# Altium schematic symbol library Connectors.SchLib: 10 symbols
Pins are listed as number, name and electrical type; pins without a type are passive.

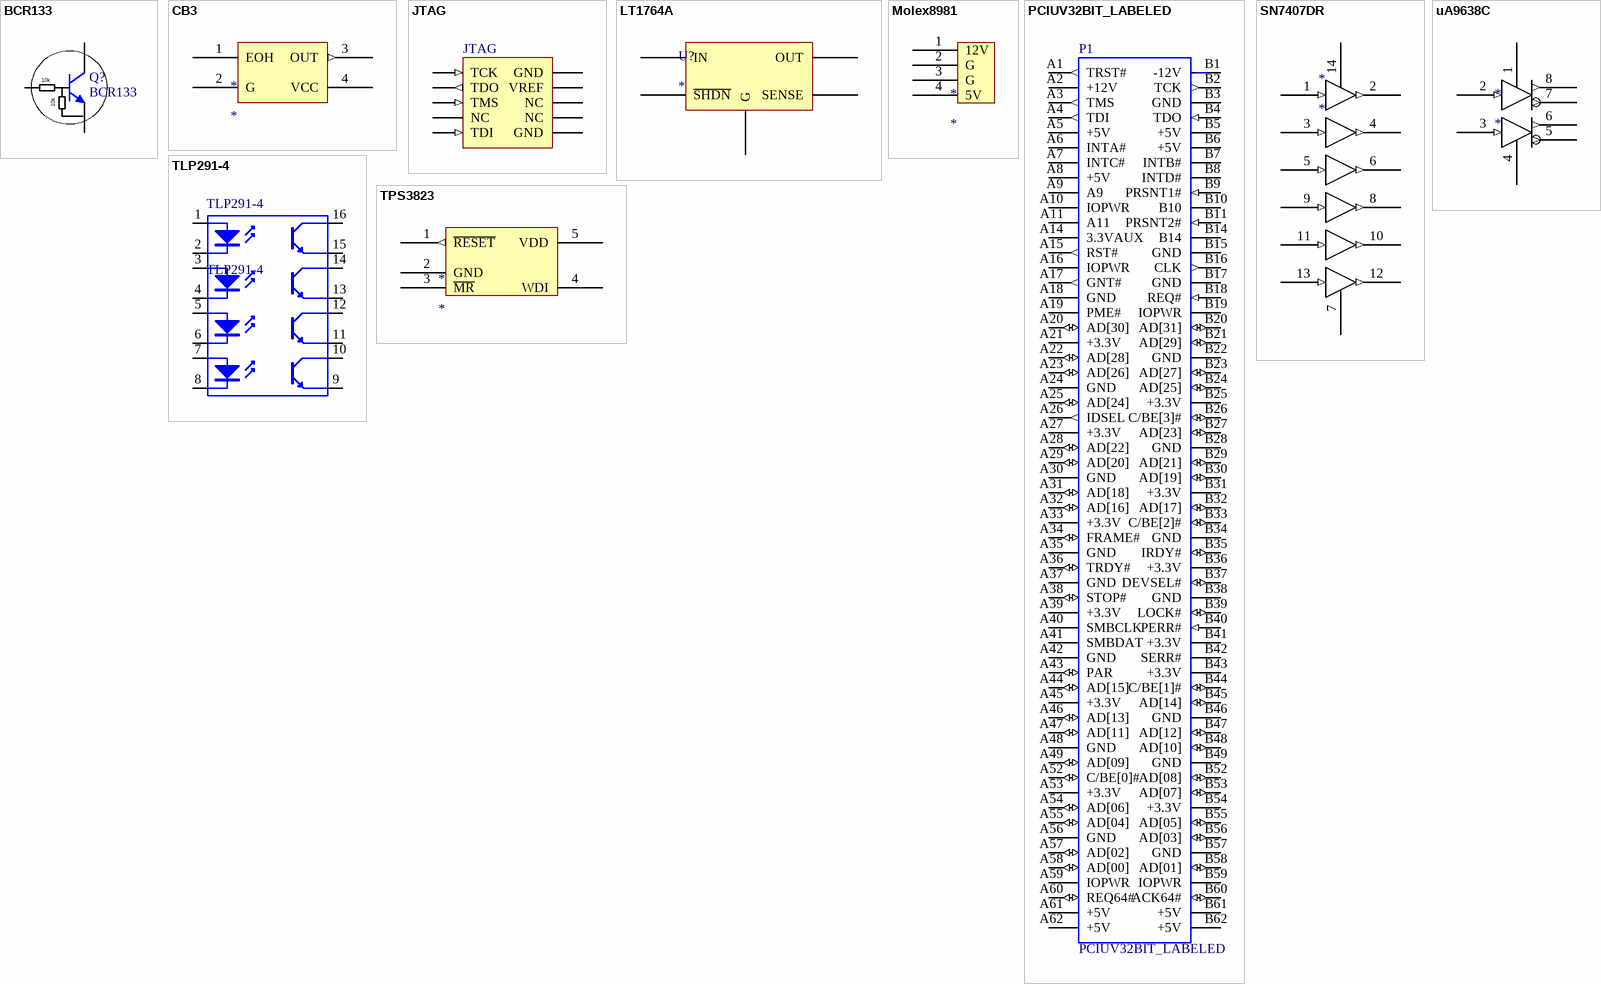
[diagram p0: symbols BCR133 to uA9638C]

## BCR133
designator Q?
NPN Bipolar Transistor; Published: 8-Jun-2000; LatestRevisionDate: 29-May-2009; LatestRevisionNote: IPC-7351 Footprint Added.; PackageVersion: Aug-1999; PackageReference: SOT-23B; Publisher: Altium Limited; PackageDescription: 3-Pin SOT-23 Package 0.95 mm Pitch, 2.4 mm Lead Span
footprint SOT-23B_N (SOT23, 3-Leads, Body 2.9x1.3mm, Pitch 0.95mm, Lead Span 2.4mm, IPC Medium Density)
footprint SOT-23B_L (SOT23, 3-Leads, Body 2.9x1.3mm, Pitch 0.95mm, Lead Span 2.4mm, IPC High Density)
footprint SOT-23B_M (SOT23, 3-Leads, Body 2.9x1.3mm, Pitch 0.95mm, Lead Span 2.4mm, IPC Low Density)
simulation model QNPN (NPN)
signal-integrity model NPN
footprint SOT23_N_1 (SOT23, 3-Leads, Body 2.9x1.3mm, Pitch 0.95mm, Lead Span 2.3mm - Reverse Pinning, IPC Medium Density)
pins: 1 B, 2 E, 3 C
text: 10k

## CB3
designator *
footprint CB3 (Footprint not found)
pins: 1 EOH (hiz), 2 G (power), 3 OUT (out), 4 VCC (power)

## JTAG
designator JTAG  (value not drawn)
Header, 5-Pin, Dual row; LatestRevisionDate: 17-Jul-2002; LatestRevisionNote: Re-released for DXP Platform.; Publisher: Altium Limited
footprint HDR2X5 (Connector; Header; 5x2 Position)
signal-integrity model Connector
pins: 1 TCK (in), 2 GND (power), 3 TDO (out), 4 VREF (power), 5 TMS (in), 6 NC, 7 NC, 8 NC, 9 TDI (in), 10 GND (power)

## LT1764A
designator U?
footprint LT1764A (Footprint not found)
pins: G (power), IN (power), OUT (power), SENSE, SHDN ~{SHDN}

## Molex8981
designator *
pins: 1 12V, 2 G, 3 G, 4 5V

## PCIUV32BIT_LABELED
designator P1
Card, 116-Position; Text Field6: Pins A12, A13, B12, B13, A50, A51, B50 & B51 are not present.  Alternate Layout Available; Text Field7: Published 14-Feb-2002
footprint PCIUV32BIT (Footprint not found)
signal-integrity model Model Name (Model Description)
pins: A1 TRST# (out), A2 +12V (power), A3 TMS (out), A4 TDI (out), A5 +5V (power), A6 INTA# (oc), A7 INTC# (oc), A8 +5V (power), A9, A10 IOPWR (power), A11, A14 3.3VAUX (power), A15 RST# (out), A16 IOPWR (power), A17 GNT# (out), A18 GND (power), A19 PME# (oc), A20 AD[30] (io), A21 +3.3V (power), A22 AD[28] (io), A23 AD[26] (io), A24 GND (power), A25 AD[24] (io), A26 IDSEL (out), A27 +3.3V (power), A28 AD[22] (io), A29 AD[20] (io), A30 GND (power), A31 AD[18] (io), A32 AD[16] (io), A33 +3.3V (power), A34 FRAME# (io), A35 GND (power), A36 TRDY# (io), A37 GND (power), A38 STOP# (io), A39 +3.3V (power), A40 SMBCLK (oc), A41 SMBDAT (oc), A42 GND (power), A43 PAR (io), A44 AD[15] (io), A45 +3.3V (power), A46 AD[13] (io), A47 AD[11] (io), A48 GND (power), A49 AD[09] (io), A52 C/BE[0]# (io), A53 +3.3V (power), A54 AD[06] (io), A55 AD[04] (io), A56 GND (power), A57 AD[02] (io), A58 AD[00] (io), A59 IOPWR (power), A60 REQ64# (io), A61 +5V (power), A62 +5V (power), B1 -12V (power), B2 TCK (out), B3 GND (power), B4 TDO (in), B5 +5V (power), B6 +5V (power), B7 INTB# (oc), B8 INTD# (oc), B9 PRSNT1# (in), B10, B11 PRSNT2# (in), B14, B15 GND (power), B16 CLK (out), B17 GND (power), B18 REQ# (in), B19 IOPWR (power), B20 AD[31] (io), B21 AD[29] (io), B22 GND (power), B23 AD[27] (io), B24 AD[25] (io), B25 +3.3V (power), B26 C/BE[3]# (io), B27 AD[23] (io), B28 GND (power), B29 AD[21] (io), B30 AD[19] (io), B31 +3.3V (power), B32 AD[17] (io), B33 C/BE[2]# (io), B34 GND (power), B35 IRDY# (io), B36 +3.3V (power), B37 DEVSEL# (io), B38 GND (power), B39 LOCK# (io), B40 PERR# (in), B41 +3.3V (power), B42 SERR# (oc), B43 +3.3V (power), B44 C/BE[1]# (io), B45 AD[14] (io), B46 GND (power), B47 AD[12] (io), B48 AD[10] (io), B49 GND (power), B52 AD[08] (io), B53 AD[07] (io), B54 +3.3V (power), B55 AD[05] (io), B56 AD[03] (io), B57 GND (power), B58 AD[01] (io), B59 IOPWR (power), B60 ACK64# (io), B61 +5V (power), B62 +5V (power)

## SN7407DR
designator *
footprint SO14 (Footprint not found)
pins: 1 (in), 2 (out), 3 (in), 4 (out), 5 (in), 6 (out), 7 (power), 8 (out), 9 (in), 10 (out), 11 (in), 12 (out), 13 (in), 14 (power)

## TLP291-4
designator TLP291-4
4-Pin Phototransistor Optocoupler; Published: 24-Mar-1999; LatestRevisionDate: 04-Mar-2005; LatestRevisionNote: Sch pins 3 & 4 Swapped.; DatasheetVersion: Nov-2003; PackageReference: DIP-4; Publisher: Altium Limited
footprint TOSHIBA_11_11F1
pins: 1 "Anode", 2 "Cathode", 3 "Anode", 4 "Cathode", 5 "Anode", 6 "Cathode", 7 "Anode", 8 "Cathode", 9 "Emitter", 10 "Collector", 11 "Emitter", 12 "Collector", 13 "Emitter", 14 "Collector", 15 "Emitter", 16 "Collector"

## TPS3823
designator *
footprint SOT23-5 (Footprint not found)
pins: 1 ~{RESET} (out), 2 GND (power), 3 ~{MR}, 4 WDI, 5 VDD (power)

## uA9638C
designator *
footprint SO8_N (Footprint not found)
pins: 1 (power), 2 (in), 3 (in), 4 (power), 5 (out), 6 (out), 7 (out), 8 (out)